# Altium schematic symbol library BSS84PW.Schlib: 1 symbol
Pins are listed as number, name and electrical type; pins without a type are passive.

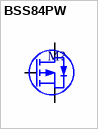
[diagram p0: symbol BSS84PW]

## BSS84PW
designator M?
60V 150mA P-Channel
pins: 1 G, 2 S, 3 D